# Altium footprint library JST BM08B-GHS-TBT.PCBLIB: 1 footprints
Each footprint in its own frame and in the unit in brackets; x right, y up, seen from the top. Pads: shape width x height; smd on the part's side, far side on the other; paste and mask are expansions set on the pad; w line width, h text height; cw(c..) or ccw(c..) is an arc to the next point about the centre after c.
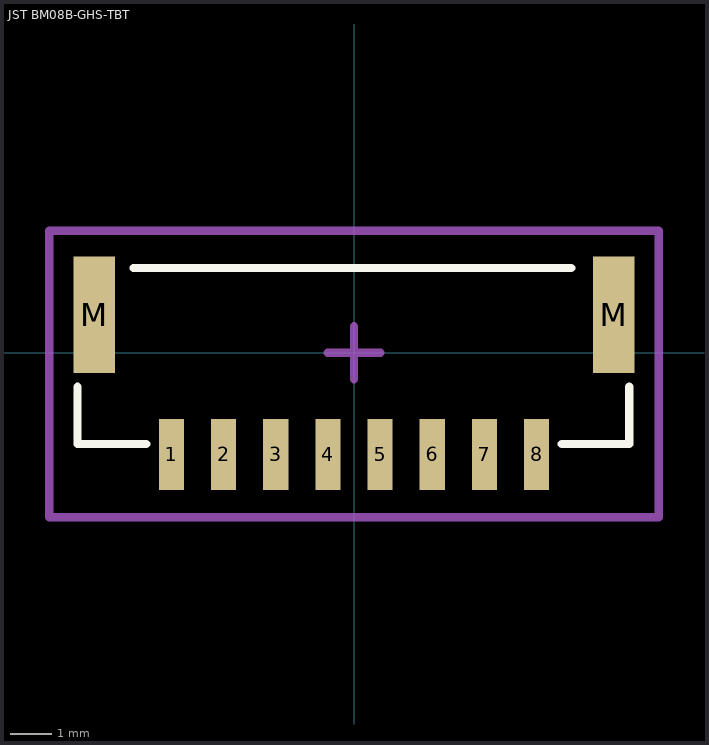
[diagram p0: the footprint, top view; thin cyan lines are the x and y axes]

## JST BM08B-GHS-TBT [mm] "JST GH Series 1.25mm pitch, top entry connector"
height 4.5
pads (10):
  rect 0.6x1.7 smd: 1(-4.375,-2.437) 2(-3.125,-2.437) 3(-1.875,-2.437) 4(-0.625,-2.437) 5(0.625,-2.437) 6(1.875,-2.437) 7(3.125,-2.437) 8(4.375,-2.437)
  rect 1x2.8 smd: M(-6.225,0.913) M(6.225,0.913)
Top Overlay:
  lines w0.2: -6.625,-0.812 -6.625,-2.187 -4.975,-2.187 ; -5.284,2.032 5.207,2.032 ; 4.975,-2.187 6.6,-2.187 6.6,-0.812
Mechanical 15:
  lines w0.2: -0.635,0 0.635,0 ; 0,-0.635 0,0.635 ; -7.306,-3.937 -7.306,2.921 7.306,2.921 7.306,-3.937 -7.306,-3.937
3D body "JST BM08B-GHS-TBT.STEP": height 4.18, standoff -0.03, extent -6.625,-2.918 6.625,2.032